# EAGLE library part BD9D321 (library kmod-testing)
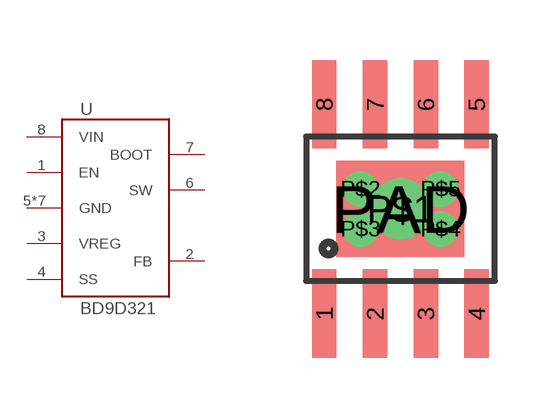
[diagram p12: symbol with the pads of HTSOP8; footprint HTSOP8]

Designator prefix -

## BD9D321EFJ  [HTSOP8]
1  EN  in
2  FB  in
3  VREG  in
4  SS  in
5  GND  in
6  SW  in
7  BOOT  in
8  VIN  in
P$1  GND  in
P$2  GND  in
P$3  GND  in
P$4  GND  in
P$5  GND  in
PAD  GND  in

## Footprint HTSOP8 (pad centres in mm)
Small Outline Package Fits JEDEC packages (narrow SOIC-8 [3.90mm]) Exposed pad
smd 0.61 x 2.21: 1 -1.905,-2.616; 2 -0.635,-2.616; 3 0.635,-2.616; 4 1.905,-2.616; 5 1.905,2.616; 6 0.635,2.616; 7 -0.635,2.616; 8 -1.905,2.616
drill 1.016: P$1 0,0
drill 0.381: P$2 -1,0.5; P$3 -1,-0.5; P$4 1,-0.5; P$5 1,0.5
smd 3.2 x 2.4: PAD 0,0